# Altium footprint library Header-2mm-1X5-M-V.PcbLib: 1 footprints
Each footprint in its own frame and in the unit in brackets; x right, y up, seen from the top. Pads: shape width x height; smd on the part's side, far side on the other; paste and mask are expansions set on the pad; w line width, h text height; cw(c..) or ccw(c..) is an arc to the next point about the centre after c.
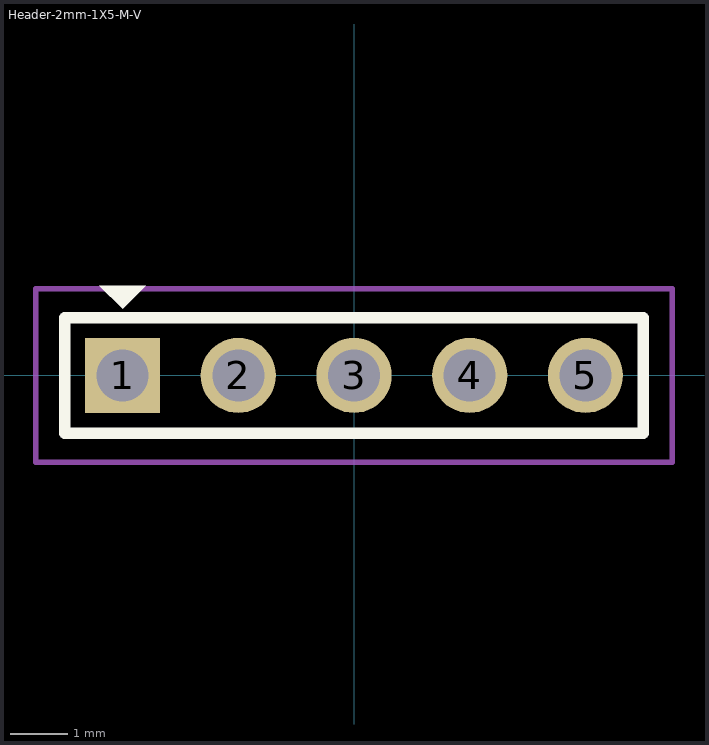
[diagram p0: the footprint, top view; thin cyan lines are the x and y axes]

## Header-2mm-1X5-M-V [mm]
pads (5):
  rect 1.3x1.3 hole 0.9: 1(-4,0)
  round 1.3 hole 0.9: 2(-2,0) 3(0,0) 4(2,0) 5(4,0)
Top Overlay:
  region: -4.4,1.55 -3.6,1.55 -4,1.15
  lines w0.2: -5,-1 5,-1 5,1 -5,1 -5,-1
Top Courtyard:
  lines w0.1: -5.5,-1 -5.5,-1.5 ; -5,-1.5 -5.5,-1.5 ; 5,1.5 5.5,1.5 ; 5.5,1 5.5,1.5 ; -5.5,-1.5 5.5,-1.5 5.5,1.5 ; -5.5,-1.5 -5.5,1.5 5.5,1.5
3D body: height 2.5, standoff 0, extent -2.475,-0.475 -1.525,0.475
3D body: height 2.5, standoff 0, extent -4.475,-0.475 -3.525,0.475
3D body "MTMM-105-06-T-S-200.stp": height 6.58, standoff -3.51, extent -5,-0.999 5,1